# EAGLE library part MPX***** (library mpx-freescale)
Generic MPX pressure sensor
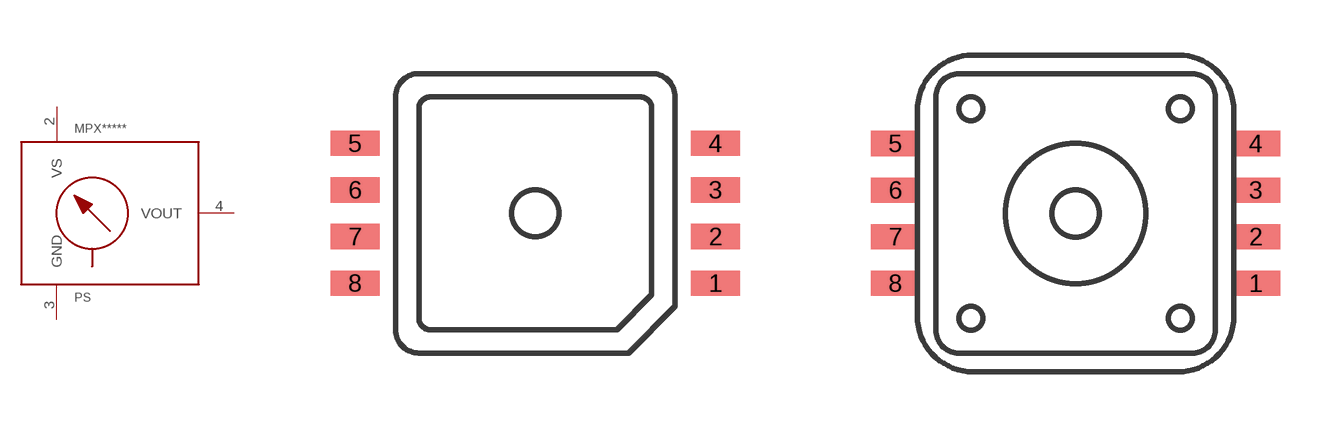
[diagram p5: symbol with the pads of 1317; footprints 1317, 1317A]

Designator prefix PS

## MPX-1317  [1317]
1  NC  nc
2  VS  pwr
3  GND  pwr
4  VOUT  out
5  NC  nc
6  NC  nc

## MPX-1317A  [1317A]
Pads as for 1317

## MPX-1351  [1351]
Pads as for 1317

## MPX-1368  [1368]
Pads as for 1317

## MPX-1369  [1369]
Pads as for 1317

## MPX-482  [482]
Pads as for 1317

## MPX-482A  [482A]
Pads as for 1317

## MPX-482B  [482B]
Pads as for 1317

## MPX-482C  [482C]
Pads as for 1317

## MPX-867-H  [867-H]
1  VOUT  out
2  GND  pwr
3  VS  pwr
4  NC  nc
5  NC  nc
6  NC  nc

## MPX-867-V  [867-V]
Pads as for 867-H

## MPX-867B-H  [867B-H]
Pads as for 867-H

## MPX-867B-V  [867B-V]
Pads as for 867-H

## MPX-867C-H  [867C-H]
Pads as for 867-H

## MPX-867C-V  [867C-V]
Pads as for 867-H

## MPX-867E-H  [867E-H]
Pads as for 867-H

## MPX-867E-V  [867E-V]
Pads as for 867-H

## MPX-867F-H  [867F-H]
Pads as for 867-H

## MPX-867F-V  [867F-V]
Pads as for 867-H

## Footprint 1317 (pad centres in mm)
Super Small Outline Package 1317-04
smd 1.346 x 0.686: 1 4.915,-1.905; 2 4.915,-0.635; 3 4.915,0.635; 4 4.915,1.905; 5 -4.915,1.905; 6 -4.915,0.635; 7 -4.915,-0.635; 8 -4.915,-1.905

## Footprint 1317A (pad centres in mm)
Super Small Outline Package 1317A-03
smd 1.346 x 0.686: 1 4.915,-1.905; 2 4.915,-0.635; 3 4.915,0.635; 4 4.915,1.905; 5 -4.915,1.905; 6 -4.915,0.635; 7 -4.915,-0.635; 8 -4.915,-1.905

## Footprint 1351 (pad centres in mm)
Small Outline Package 1351-01 Dual Port
smd 2.54 x 1.524: 1 8.382,-3.81; 2 8.382,-1.27; 3 8.382,1.27; 4 8.382,3.81; 5 -8.382,3.81; 6 -8.382,1.27; 7 -8.382,-1.27; 8 -8.382,-3.81

## Footprint 1368 (pad centres in mm)
Small Outline Package 1368-01
smd 2.54 x 1.524: 1 8.382,-3.81; 2 8.382,-1.27; 3 8.382,1.27; 4 8.382,3.81; 5 -8.382,3.81; 6 -8.382,1.27; 7 -8.382,-1.27; 8 -8.382,-3.81

## Footprint 1369 (pad centres in mm)
Small Outline Package 1369-01 Side Port
smd 2.54 x 1.524: 1 8.382,-3.81; 2 8.382,-1.27; 3 8.382,1.27; 4 8.382,3.81; 5 -8.382,3.81; 6 -8.382,1.27; 7 -8.382,-1.27; 8 -8.382,-3.81

## Footprint 482 (pad centres in mm)
Small Outline Package 482-01
smd 2.54 x 1.524: 1 8.382,-3.81; 2 8.382,-1.27; 3 8.382,1.27; 4 8.382,3.81; 5 -8.382,3.81; 6 -8.382,1.27; 7 -8.382,-1.27; 8 -8.382,-3.81

## Footprint 482A (pad centres in mm)
Small Outline Package 482A-01
smd 2.54 x 1.524: 1 8.382,-3.81; 2 8.382,-1.27; 3 8.382,1.27; 4 8.382,3.81; 5 -8.382,3.81; 6 -8.382,1.27; 7 -8.382,-1.27; 8 -8.382,-3.81

## Footprint 482B (pad centres in mm)
Small Outline Package Through-Hole 482B-03
drill 0.813 long: 1 6.985,-3.81; 2 6.985,-1.27; 3 6.985,1.27; 4 6.985,3.81; 5 -6.985,3.81; 6 -6.985,1.27; 7 -6.985,-1.27; 8 -6.985,-3.81

## Footprint 482C (pad centres in mm)
Small Outline Package Through-Hole 482C-03
drill 0.813 long: 1 6.985,-3.81; 2 6.985,-1.27; 3 6.985,1.27; 4 6.985,3.81; 5 -6.985,3.81; 6 -6.985,1.27; 7 -6.985,-1.27; 8 -6.985,-3.81

## Footprint 867-H (pad centres in mm)
Basic Element Unibody Package 867-08 Horizontal Mount
drill 1.016 long: 1 -6.35,-12.192; 2 -3.81,-12.192; 3 -1.27,-12.192; 4 1.27,-12.192; 5 3.81,-12.192; 6 6.35,-12.192

## Footprint 867-V (pad centres in mm)
Basic Element Unibody Package 867-08 Vertical Mount
drill 1.016 long: 1 -6.35,0; 2 -3.81,0; 3 -1.27,0; 4 1.27,0; 5 3.81,0; 6 6.35,0

## Footprint 867B-H (pad centres in mm)
Pressure Side Ported (AP, GP) Unibody Package 867B-04 Horizontal Mount
drill 1.016 long: 1 -6.35,-12.192; 2 -3.81,-12.192; 3 -1.27,-12.192; 4 1.27,-12.192; 5 3.81,-12.192; 6 6.35,-12.192
hole 4.064 at -11.557,0
hole 4.064 at 11.557,0

## Footprint 867B-V (pad centres in mm)
Pressure Side Ported (AP, GP) Unibody Package 867B-04 Vertical Mount
drill 1.016 long: 1 -6.35,0; 2 -3.81,0; 3 -1.27,0; 4 1.27,0; 5 3.81,0; 6 6.35,0

## Footprint 867C-H (pad centres in mm)
Pressure Side Ported (DP) Unibody Package 867C-05 Horizontal Mount
drill 1.016 long: 1 -6.35,-12.192; 2 -3.81,-12.192; 3 -1.27,-12.192; 4 1.27,-12.192; 5 3.81,-12.192; 6 6.35,-12.192
hole 4.064 at -11.557,0
hole 4.064 at 11.557,0

## Footprint 867C-V (pad centres in mm)
Pressure Side Ported (DP) Unibody Package 867C-05 Vertical Mount
drill 1.016 long: 1 -6.35,0; 2 -3.81,0; 3 -1.27,0; 4 1.27,0; 5 3.81,0; 6 6.35,0

## Footprint 867E-H (pad centres in mm)
Pressure Side Ported (AP, GP) Unibody Package 867E-03 Horizontal Mount
drill 1.016 long: 1 -6.35,-12.192; 2 -3.81,-12.192; 3 -1.27,-12.192; 4 1.27,-12.192; 5 3.81,-12.192; 6 6.35,-12.192

## Footprint 867E-V (pad centres in mm)
Pressure Side Ported (AP, GP) Unibody Package 867E-03 Vertical Mount
drill 1.016 long: 1 -6.35,0; 2 -3.81,0; 3 -1.27,0; 4 1.27,0; 5 3.81,0; 6 6.35,0

## Footprint 867F-H (pad centres in mm)
Pressure Top Ported Unibody Package 867F-03 Horizontal Mount
drill 1.016 long: 1 -6.35,0; 2 -3.81,0; 3 -1.27,0; 4 1.27,0; 5 3.81,0; 6 6.35,0
hole 4.064 at -10.922,14.224
hole 4.064 at 10.922,14.224

## Footprint 867F-V (pad centres in mm)
Pressure Top Ported Unibody Package 867F-03 Vertical Mount
drill 1.016 long: 1 -6.35,0; 2 -3.81,0; 3 -1.27,0; 4 1.27,0; 5 3.81,0; 6 6.35,0